# EAGLE library part DAC121C081 (library DAC121C081 - 12bit I2C DAC)
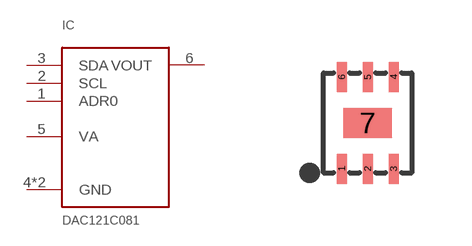
[diagram p0: symbol with the pads of WSON-6; footprint WSON-6]

Designator prefix IC

## DAC121C081  [WSON-6]
1  ADR0  in
2  SCL  in
3  SDA
4  GND  pwr
5  VA  pwr
6  VOUT  out
7  GND  pwr

## Footprint WSON-6 (pad centres in mm)
smd 0.25 x 0.75: 1 -0.65,-1.15; 2 0,-1.15; 3 0.65,-1.15; 4 0.65,1.15; 5 0,1.15; 6 -0.65,1.15
smd 1.2 x 0.75: 7 0,0